# Altium schematic symbol library XT60H-F.SchLib: 1 symbol
Pins are listed as number, name and electrical type; pins without a type are passive.

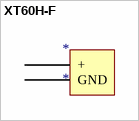
[diagram p0: symbol XT60H-F]

## XT60H-F
designator *
footprint XT60H-F
pins: 1 +, 2 GND